# EAGLE library part DS3231-CORRECT (library DS3231)
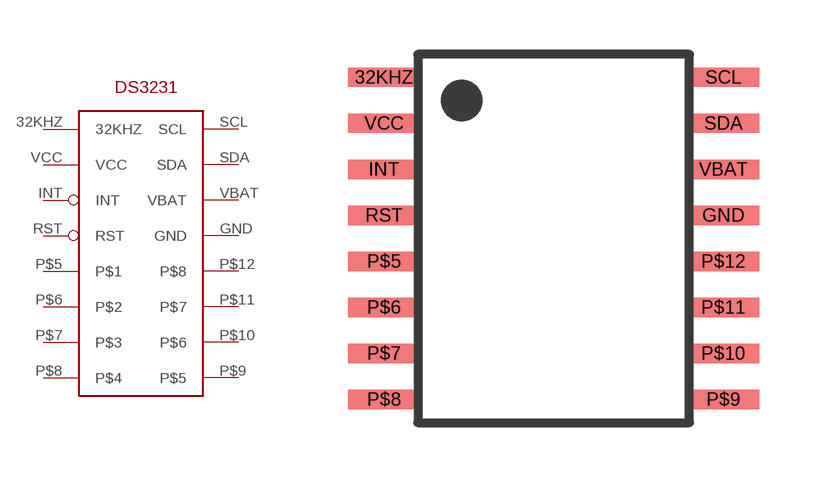
[diagram p16: symbol with the pads of SOIC16-CORRECT; footprint SOIC16-CORRECT]

Designator prefix RTC

## DS3231-CORRECT  [SOIC16-CORRECT]
32KHZ  32KHZ  out
GND  GND
INT  INT
P$5  P$1  nc
P$6  P$2  nc
P$7  P$3  nc
P$8  P$4  nc
P$9  P$5  nc
P$10  P$6  nc
P$11  P$7  nc
P$12  P$8  nc
RST  RST
SCL  SCL
SDA  SDA
VBAT  VBAT
VCC  VCC  in

## Footprint SOIC16-CORRECT (pad centres in mm)
smd 1.98 x 0.53: 32KHZ -4.685,0; GND 4.685,-3.81; INT -4.685,-2.54; P$5 -4.685,-5.08; P$6 -4.685,-6.35; P$7 -4.685,-7.62; P$8 -4.685,-8.89; P$9 4.685,-8.89; P$10 4.685,-7.62; P$11 4.685,-6.35; P$12 4.685,-5.08; RST -4.685,-3.81; SCL 4.685,0; SDA 4.685,-1.27; VBAT 4.685,-2.54; VCC -4.685,-1.27